# Altium footprint library 排针-排母.PcbLib: 177 footprints (part 2 of 12)
Each footprint in its own frame and in the unit in brackets; x right, y up, seen from the top. Pads: shape width x height; smd on the part's side, far side on the other; paste and mask are expansions set on the pad; w line width, h text height; cw(c..) or ccw(c..) is an arc to the next point about the centre after c.
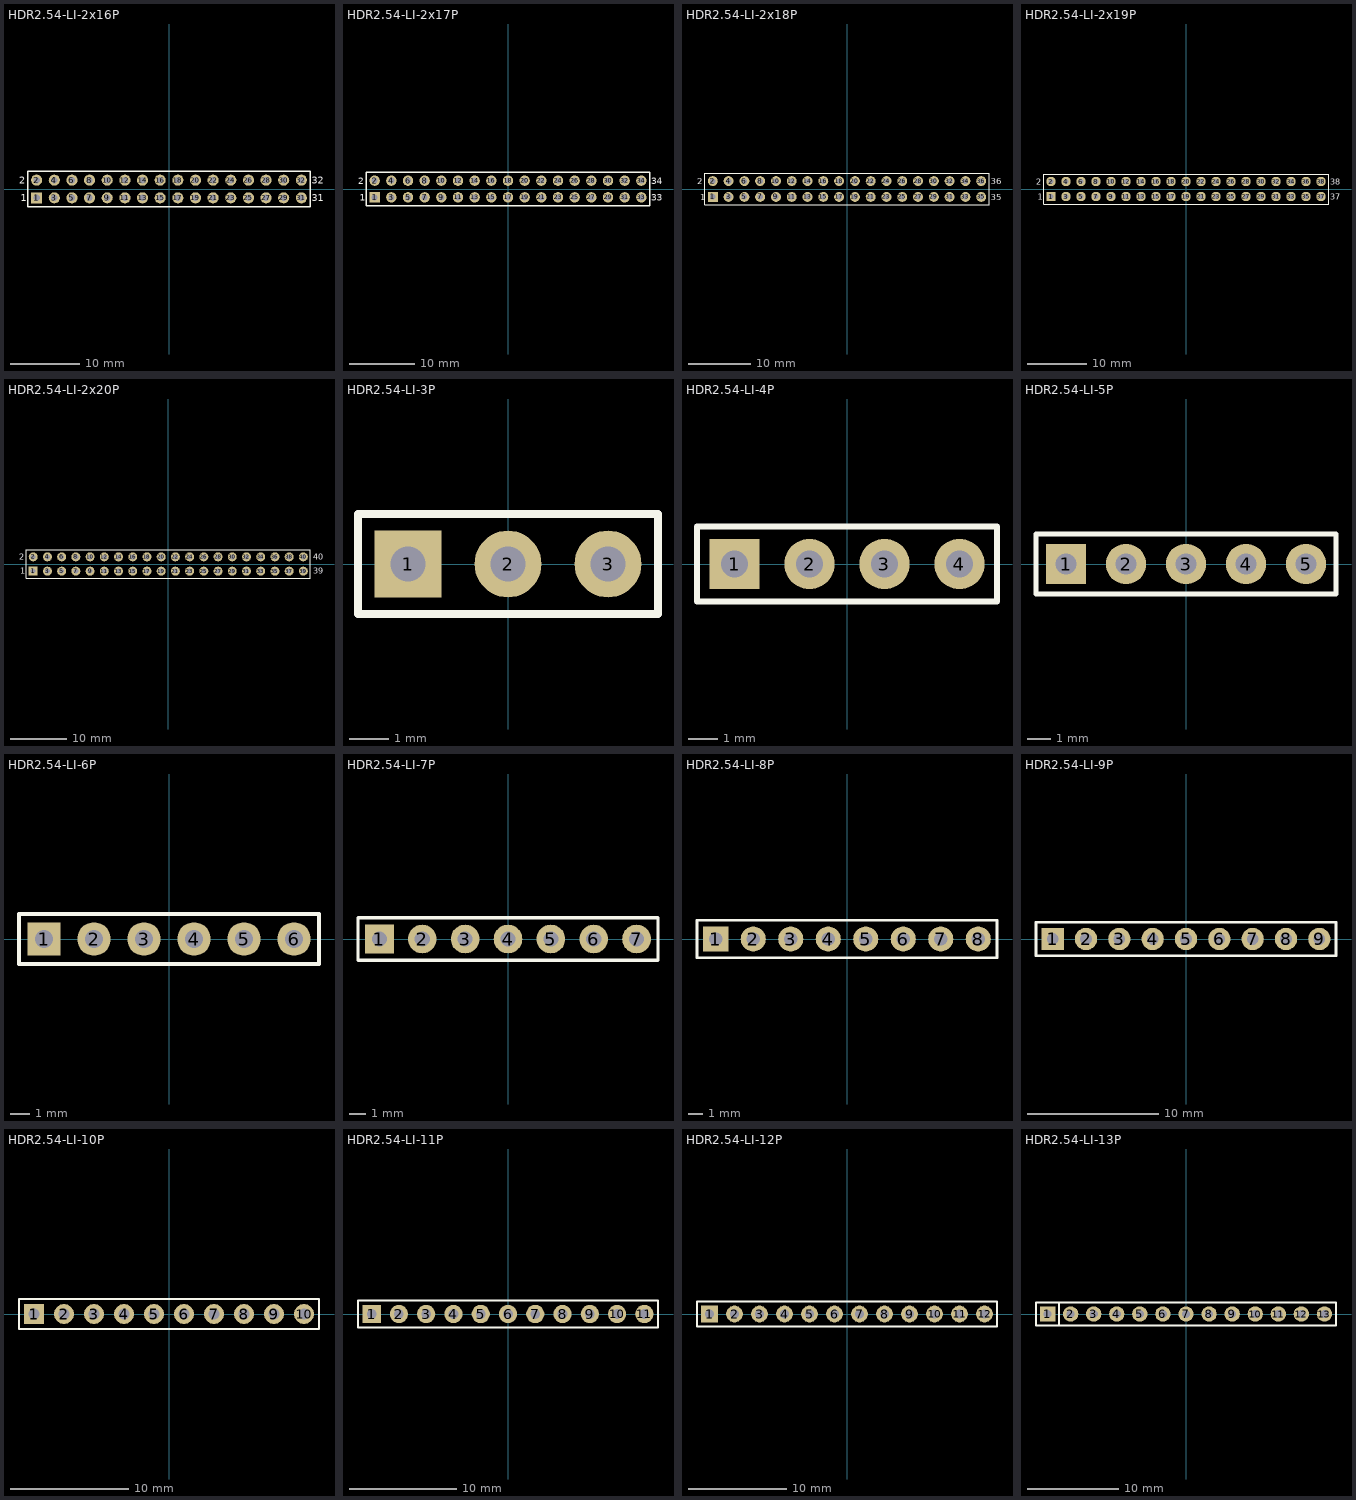
[diagram p1: the footprints below, top view; thin cyan lines are the x and y axes]

## HDR2.54-LI-2x16P [mm] "双排排针，16x2脚"
pads (32):
  rect 1.6x1.6 hole 0.9: 1(-19.05,-1.27)
  round 1.6 hole 0.9: 2(-19.05,1.27) 3(-16.51,-1.27) 4(-16.51,1.27) 5(-13.97,-1.27) 6(-13.97,1.27) 7(-11.43,-1.27) 8(-11.43,1.27) 9(-8.89,-1.27) 10(-8.89,1.27) 11(-6.35,-1.27) 12(-6.35,1.27) 13(-3.81,-1.27) 14(-3.81,1.27) 15(-1.27,-1.27) 16(-1.27,1.27) 17(1.27,-1.27) 18(1.27,1.27) 19(3.81,-1.27) 20(3.81,1.27) 21(6.35,-1.27) 22(6.35,1.27) 23(8.89,-1.27) 24(8.89,1.27) 25(11.43,-1.27) 26(11.43,1.27) 27(13.97,-1.27) 28(13.97,1.27) 29(16.51,-1.27) 30(16.51,1.27) 31(19.05,-1.27) 32(19.05,1.27)
Top Overlay:
  lines w0.2: -20.32,-2.54 -20.32,2.54 20.32,2.54 20.32,-2.54 -20.32,-2.54
  text "32" at 20.574,0.762 h1.02
  text "31" at 20.574,-1.778 h1.02
  text "1" at -21.336,-1.778 h1.02
  text "2" at -21.59,0.762 h1.02
3D body: height 8.5, standoff -3, extent 17.78,-2.54 20.32,2.54
3D body: height 8.5, standoff -3, extent 10.16,-2.54 12.7,2.54
3D body: height 8.5, standoff -3, extent 12.7,-2.54 15.24,2.54
3D body: height 8.5, standoff -3, extent 5.08,-2.54 7.62,2.54
3D body: height 8.5, standoff -3, extent 7.62,-2.54 10.16,2.54
3D body: height 8.5, standoff -3, extent 15.24,-2.54 17.78,2.54
3D body: height 8.5, standoff -3, extent -2.54,-2.54 0,2.54
3D body: height 8.5, standoff -3, extent 0,-2.54 2.54,2.54
3D body: height 8.5, standoff -3, extent -7.62,-2.54 -5.08,2.54
3D body: height 8.5, standoff -3, extent -5.08,-2.54 -2.54,2.54
3D body: height 8.5, standoff -3, extent 2.54,-2.54 5.08,2.54
3D body: height 8.5, standoff -3, extent -15.24,-2.54 -12.7,2.54
3D body: height 8.5, standoff -3, extent -12.7,-2.54 -10.16,2.54
3D body: height 8.5, standoff -3, extent -20.32,-2.54 -17.78,2.54
3D body: height 8.5, standoff -3, extent -17.78,-2.54 -15.24,2.54
3D body: height 8.5, standoff -3, extent -10.16,-2.54 -7.62,2.54

## HDR2.54-LI-2x17P [mm] "双排排针，17x2脚"
pads (34):
  rect 1.6x1.6 hole 0.9: 1(-20.32,-1.27)
  round 1.6 hole 0.9: 2(-20.32,1.27) 3(-17.78,-1.27) 4(-17.78,1.27) 5(-15.24,-1.27) 6(-15.24,1.27) 7(-12.7,-1.27) 8(-12.7,1.27) 9(-10.16,-1.27) 10(-10.16,1.27) 11(-7.62,-1.27) 12(-7.62,1.27) 13(-5.08,-1.27) 14(-5.08,1.27) 15(-2.54,-1.27) 16(-2.54,1.27) 17(0,-1.27) 18(0,1.27) 19(2.54,-1.27) 20(2.54,1.27) 21(5.08,-1.27) 22(5.08,1.27) 23(7.62,-1.27) 24(7.62,1.27) 25(10.16,-1.27) 26(10.16,1.27) 27(12.7,-1.27) 28(12.7,1.27) 29(15.24,-1.27) 30(15.24,1.27) 31(17.78,-1.27) 32(17.78,1.27) 33(20.32,-1.27) 34(20.32,1.27)
Top Overlay:
  lines w0.2: -21.59,-2.54 21.59,-2.54 21.59,2.54 -21.59,2.54 -21.59,-2.54
  text "34" at 21.844,0.762 h1.02
  text "33" at 21.844,-1.778 h1.02
  text "1" at -22.606,-1.778 h1.02
  text "2" at -22.86,0.762 h1.02
3D body: height 8.5, standoff -3, extent -11.43,-2.54 -8.89,2.54
3D body: height 8.5, standoff -3, extent -19.05,-2.54 -16.51,2.54
3D body: height 8.5, standoff -3, extent -21.59,-2.54 -19.05,2.54
3D body: height 8.5, standoff -3, extent -13.97,-2.54 -11.43,2.54
3D body: height 8.5, standoff -3, extent -16.51,-2.54 -13.97,2.54
3D body: height 8.5, standoff -3, extent 1.27,-2.54 3.81,2.54
3D body: height 8.5, standoff -3, extent -6.35,-2.54 -3.81,2.54
3D body: height 8.5, standoff -3, extent -8.89,-2.54 -6.35,2.54
3D body: height 8.5, standoff -3, extent -1.27,-2.54 1.27,2.54
3D body: height 8.5, standoff -3, extent -3.81,-2.54 -1.27,2.54
3D body: height 8.5, standoff -3, extent 13.97,-2.54 16.51,2.54
3D body: height 8.5, standoff -3, extent 6.35,-2.54 8.89,2.54
3D body: height 8.5, standoff -3, extent 3.81,-2.54 6.35,2.54
3D body: height 8.5, standoff -3, extent 11.43,-2.54 13.97,2.54
3D body: height 8.5, standoff -3, extent 8.89,-2.54 11.43,2.54
3D body: height 8.5, standoff -3, extent 19.05,-2.54 21.59,2.54
3D body: height 8.5, standoff -3, extent 16.51,-2.54 19.05,2.54

## HDR2.54-LI-2x18P [mm] "双排排针，18x2脚"
pads (36):
  rect 1.6x1.6 hole 0.9: 1(-21.59,-1.27)
  round 1.6 hole 0.9: 2(-21.59,1.27) 3(-19.05,-1.27) 4(-19.05,1.27) 5(-16.51,-1.27) 6(-16.51,1.27) 7(-13.97,-1.27) 8(-13.97,1.27) 9(-11.43,-1.27) 10(-11.43,1.27) 11(-8.89,-1.27) 12(-8.89,1.27) 13(-6.35,-1.27) 14(-6.35,1.27) 15(-3.81,-1.27) 16(-3.81,1.27) 17(-1.27,-1.27) 18(-1.27,1.27) 19(1.27,-1.27) 20(1.27,1.27) 21(3.81,-1.27) 22(3.81,1.27) 23(6.35,-1.27) 24(6.35,1.27) 25(8.89,-1.27) 26(8.89,1.27) 27(11.43,-1.27) 28(11.43,1.27) 29(13.97,-1.27) 30(13.97,1.27) 31(16.51,-1.27) 32(16.51,1.27) 33(19.05,-1.27) 34(19.05,1.27) 35(21.59,-1.27) 36(21.59,1.27)
Top Overlay:
  lines w0.2: -17.78,-2.54 -22.86,-2.54 ; -22.86,-2.54 22.86,-2.54 22.86,2.54 -22.86,2.54 -22.86,-2.54
  text "36" at 23.114,0.762 h1.02
  text "35" at 23.114,-1.778 h1.02
  text "1" at -23.622,-1.778 h1.02
  text "2" at -24.13,0.762 h1.02
3D body: height 8.5, standoff -3, extent -12.7,-2.54 -10.16,2.54
3D body: height 8.5, standoff -3, extent -20.32,-2.54 -17.78,2.54
3D body: height 8.5, standoff -3, extent -22.86,-2.54 -20.32,2.54
3D body: height 8.5, standoff -3, extent -15.24,-2.54 -12.7,2.54
3D body: height 8.5, standoff -3, extent -17.78,-2.54 -15.24,2.54
3D body: height 8.5, standoff -3, extent 0,-2.54 2.54,2.54
3D body: height 8.5, standoff -3, extent -7.62,-2.54 -5.08,2.54
3D body: height 8.5, standoff -3, extent -10.16,-2.54 -7.62,2.54
3D body: height 8.5, standoff -3, extent -2.54,-2.54 0,2.54
3D body: height 8.5, standoff -3, extent -5.08,-2.54 -2.54,2.54
3D body: height 8.5, standoff -3, extent 12.7,-2.54 15.24,2.54
3D body: height 8.5, standoff -3, extent 5.08,-2.54 7.62,2.54
3D body: height 8.5, standoff -3, extent 2.54,-2.54 5.08,2.54
3D body: height 8.5, standoff -3, extent 10.16,-2.54 12.7,2.54
3D body: height 8.5, standoff -3, extent 7.62,-2.54 10.16,2.54
3D body: height 8.5, standoff -3, extent 17.78,-2.54 20.32,2.54
3D body: height 8.5, standoff -3, extent 15.24,-2.54 17.78,2.54
3D body: height 8.5, standoff -3, extent 20.32,-2.54 22.86,2.54

## HDR2.54-LI-2x19P [mm] "双排排针，19x2脚"
pads (38):
  rect 1.6x1.6 hole 0.9: 1(-22.86,-1.27)
  round 1.6 hole 0.9: 2(-22.86,1.27) 3(-20.32,-1.27) 4(-20.32,1.27) 5(-17.78,-1.27) 6(-17.78,1.27) 7(-15.24,-1.27) 8(-15.24,1.27) 9(-12.7,-1.27) 10(-12.7,1.27) 11(-10.16,-1.27) 12(-10.16,1.27) 13(-7.62,-1.27) 14(-7.62,1.27) 15(-5.08,-1.27) 16(-5.08,1.27) 17(-2.54,-1.27) 18(-2.54,1.27) 19(0,-1.27) 20(0,1.27) 21(2.54,-1.27) 22(2.54,1.27) 23(5.08,-1.27) 24(5.08,1.27) 25(7.62,-1.27) 26(7.62,1.27) 27(10.16,-1.27) 28(10.16,1.27) 29(12.7,-1.27) 30(12.7,1.27) 31(15.24,-1.27) 32(15.24,1.27) 33(17.78,-1.27) 34(17.78,1.27) 35(20.32,-1.27) 36(20.32,1.27) 37(22.86,-1.27) 38(22.86,1.27)
Top Overlay:
  lines w0.2: -24.13,-2.54 24.13,-2.54 24.13,2.54 -24.13,2.54 -24.13,-2.54
  text "2" at -25.4,0.762 h1.02
  text "1" at -25.146,-1.778 h1.02
  text "37" at 24.384,-1.778 h1.02
  text "38" at 24.384,0.762 h1.02
3D body: height 8.5, standoff -3, extent 19.05,-2.54 21.59,2.54
3D body: height 8.5, standoff -3, extent 21.59,-2.54 24.13,2.54
3D body: height 8.5, standoff -3, extent 13.97,-2.54 16.51,2.54
3D body: height 8.5, standoff -3, extent 16.51,-2.54 19.05,2.54
3D body: height 8.5, standoff -3, extent 6.35,-2.54 8.89,2.54
3D body: height 8.5, standoff -3, extent 8.89,-2.54 11.43,2.54
3D body: height 8.5, standoff -3, extent 1.27,-2.54 3.81,2.54
3D body: height 8.5, standoff -3, extent 3.81,-2.54 6.35,2.54
3D body: height 8.5, standoff -3, extent 11.43,-2.54 13.97,2.54
3D body: height 8.5, standoff -3, extent -6.35,-2.54 -3.81,2.54
3D body: height 8.5, standoff -3, extent -3.81,-2.54 -1.27,2.54
3D body: height 8.5, standoff -3, extent -11.43,-2.54 -8.89,2.54
3D body: height 8.5, standoff -3, extent -8.89,-2.54 -6.35,2.54
3D body: height 8.5, standoff -3, extent -1.27,-2.54 1.27,2.54
3D body: height 8.5, standoff -3, extent -19.05,-2.54 -16.51,2.54
3D body: height 8.5, standoff -3, extent -16.51,-2.54 -13.97,2.54
3D body: height 8.5, standoff -3, extent -24.13,-2.54 -21.59,2.54
3D body: height 8.5, standoff -3, extent -21.59,-2.54 -19.05,2.54
3D body: height 8.5, standoff -3, extent -13.97,-2.54 -11.43,2.54

## HDR2.54-LI-2x20P [mm] "双排排针，20x2脚"
pads (40):
  rect 1.6x1.6 hole 0.9: 1(-24.13,-1.27)
  round 1.6 hole 0.9: 2(-24.13,1.27) 3(-21.59,-1.27) 4(-21.59,1.27) 5(-19.05,-1.27) 6(-19.05,1.27) 7(-16.51,-1.27) 8(-16.51,1.27) 9(-13.97,-1.27) 10(-13.97,1.27) 11(-11.43,-1.27) 12(-11.43,1.27) 13(-8.89,-1.27) 14(-8.89,1.27) 15(-6.35,-1.27) 16(-6.35,1.27) 17(-3.81,-1.27) 18(-3.81,1.27) 19(-1.27,-1.27) 20(-1.27,1.27) 21(1.27,-1.27) 22(1.27,1.27) 23(3.81,-1.27) 24(3.81,1.27) 25(6.35,-1.27) 26(6.35,1.27) 27(8.89,-1.27) 28(8.89,1.27) 29(11.43,-1.27) 30(11.43,1.27) 31(13.97,-1.27) 32(13.97,1.27) 33(16.51,-1.27) 34(16.51,1.27) 35(19.05,-1.27) 36(19.05,1.27) 37(21.59,-1.27) 38(21.59,1.27) 39(24.13,-1.27) 40(24.13,1.27)
Top Overlay:
  lines w0.2: -25.4,-2.54 25.4,-2.54 25.4,2.54 -25.4,2.54 -25.4,-2.54
  text "1" at -26.416,-1.778 h1.02
  text "2" at -26.67,0.762 h1.02
  text "40" at 25.908,0.762 h1.02
  text "39" at 25.908,-1.778 h1.02
3D body: height 8.5, standoff -3, extent 17.78,-2.54 20.32,2.54
3D body: height 8.5, standoff -3, extent 20.32,-2.54 22.86,2.54
3D body: height 8.5, standoff -3, extent 12.7,-2.54 15.24,2.54
3D body: height 8.5, standoff -3, extent 15.24,-2.54 17.78,2.54
3D body: height 8.5, standoff -3, extent 22.86,-2.54 25.4,2.54
3D body: height 8.5, standoff -3, extent 5.08,-2.54 7.62,2.54
3D body: height 8.5, standoff -3, extent 7.62,-2.54 10.16,2.54
3D body: height 8.5, standoff -3, extent 0,-2.54 2.54,2.54
3D body: height 8.5, standoff -3, extent 2.54,-2.54 5.08,2.54
3D body: height 8.5, standoff -3, extent 10.16,-2.54 12.7,2.54
3D body: height 8.5, standoff -3, extent -7.62,-2.54 -5.08,2.54
3D body: height 8.5, standoff -3, extent -5.08,-2.54 -2.54,2.54
3D body: height 8.5, standoff -3, extent -12.7,-2.54 -10.16,2.54
3D body: height 8.5, standoff -3, extent -10.16,-2.54 -7.62,2.54
3D body: height 8.5, standoff -3, extent -2.54,-2.54 0,2.54
3D body: height 8.5, standoff -3, extent -20.32,-2.54 -17.78,2.54
3D body: height 8.5, standoff -3, extent -17.78,-2.54 -15.24,2.54
3D body: height 8.5, standoff -3, extent -25.4,-2.54 -22.86,2.54
3D body: height 8.5, standoff -3, extent -22.86,-2.54 -20.32,2.54
3D body: height 8.5, standoff -3, extent -15.24,-2.54 -12.7,2.54

## HDR2.54-LI-3P [mm] "排针，3脚"
pads (3):
  rect 1.7x1.7 hole 0.9: 1(-2.54,0)
  round 1.7 hole 0.9: 2(0,0) 3(2.54,0)
Top Overlay:
  lines w0.2: -3.81,-1.27 -3.81,1.27 3.81,1.27 3.81,-1.27 -3.81,-1.27
3D body: height 8.5, standoff -3, extent 1.27,-1.27 3.81,1.27
3D body: height 8.5, standoff -3, extent -1.27,-1.27 1.27,1.27
3D body: height 8.5, standoff -3, extent -3.81,-1.27 -1.27,1.27

## HDR2.54-LI-4P [mm] "排针，4脚"
pads (4):
  rect 1.7x1.7 hole 0.9: 1(-3.81,0)
  round 1.7 hole 0.9: 2(-1.27,0) 3(1.27,0) 4(3.81,0)
Top Overlay:
  lines w0.2: -5.08,-1.27 -5.08,1.27 5.08,1.27 5.08,-1.27 -5.08,-1.27
3D body: height 8.5, standoff -3, extent -5.08,-1.27 -2.54,1.27
3D body: height 8.5, standoff -3, extent -2.54,-1.27 0,1.27
3D body: height 8.5, standoff -3, extent 0,-1.27 2.54,1.27
3D body: height 8.5, standoff -3, extent 2.54,-1.27 5.08,1.27

## HDR2.54-LI-5P [mm] "排针，5脚"
pads (5):
  rect 1.7x1.7 hole 0.9: 1(-5.08,0)
  round 1.7 hole 0.9: 2(-2.54,0) 3(0,0) 4(2.54,0) 5(5.08,0)
Top Overlay:
  lines w0.2: -6.35,-1.27 6.35,-1.27 6.35,1.27 -6.35,1.27 -6.35,-1.27
3D body: height 8.5, standoff -3, extent -3.81,-1.27 -1.27,1.27
3D body: height 8.5, standoff -3, extent -6.35,-1.27 -3.81,1.27
3D body: height 8.5, standoff -3, extent 1.27,-1.27 3.81,1.27
3D body: height 8.5, standoff -3, extent -1.27,-1.27 1.27,1.27
3D body: height 8.5, standoff -3, extent 3.81,-1.27 6.35,1.27

## HDR2.54-LI-6P [mm] "排针，6脚"
pads (6):
  rect 1.7x1.7 hole 0.9: 1(-6.35,0)
  round 1.7 hole 0.9: 2(-3.81,0) 3(-1.27,0) 4(1.27,0) 5(3.81,0) 6(6.35,0)
Top Overlay:
  lines w0.2: -7.62,-1.27 -7.62,1.27 7.62,1.27 7.62,-1.27 -7.62,-1.27
3D body: height 8.5, standoff -3, extent 5.08,-1.27 7.62,1.27
3D body: height 8.5, standoff -3, extent 2.54,-1.27 5.08,1.27
3D body: height 8.5, standoff -3, extent 0,-1.27 2.54,1.27
3D body: height 8.5, standoff -3, extent -2.54,-1.27 0,1.27
3D body: height 8.5, standoff -3, extent -5.08,-1.27 -2.54,1.27
3D body: height 8.5, standoff -3, extent -7.62,-1.27 -5.08,1.27

## HDR2.54-LI-7P [mm] "排针，8脚"
pads (7):
  rect 1.7x1.7 hole 0.9: 1(-7.62,0)
  round 1.7 hole 0.9: 2(-5.08,0) 3(-2.54,0) 4(0,0) 5(2.54,0) 6(5.08,0) 7(7.62,0)
Top Overlay:
  lines w0.2: -8.89,-1.27 -8.89,1.27 8.89,1.27 8.89,-1.27 -8.89,-1.27
3D body: height 8.5, standoff -3, extent -8.89,-1.27 -6.35,1.27
3D body: height 8.5, standoff -3, extent -6.35,-1.27 -3.81,1.27
3D body: height 8.5, standoff -3, extent -3.81,-1.27 -1.27,1.27
3D body: height 8.5, standoff -3, extent -1.27,-1.27 1.27,1.27
3D body: height 8.5, standoff -3, extent 1.27,-1.27 3.81,1.27
3D body: height 8.5, standoff -3, extent 3.81,-1.27 6.35,1.27
3D body: height 8.5, standoff -3, extent 6.35,-1.27 8.89,1.27

## HDR2.54-LI-8P [mm] "排针，8脚"
pads (8):
  rect 1.7x1.7 hole 0.9: 1(-8.89,0)
  round 1.7 hole 0.9: 2(-6.35,0) 3(-3.81,0) 4(-1.27,0) 5(1.27,0) 6(3.81,0) 7(6.35,0) 8(8.89,0)
Top Overlay:
  lines w0.2: -10.16,-1.27 -10.16,1.27 10.16,1.27 10.16,-1.27 -10.16,-1.27
3D body: height 8.5, standoff -3, extent 7.62,-1.27 10.16,1.27
3D body: height 8.5, standoff -3, extent 2.54,-1.27 5.08,1.27
3D body: height 8.5, standoff -3, extent 5.08,-1.27 7.62,1.27
3D body: height 8.5, standoff -3, extent 0,-1.27 2.54,1.27
3D body: height 8.5, standoff -3, extent -2.54,-1.27 0,1.27
3D body: height 8.5, standoff -3, extent -5.08,-1.27 -2.54,1.27
3D body: height 8.5, standoff -3, extent -7.62,-1.27 -5.08,1.27
3D body: height 8.5, standoff -3, extent -10.16,-1.27 -7.62,1.27

## HDR2.54-LI-9P [mm] "排针，9脚"
pads (9):
  rect 1.7x1.7 hole 0.9: 1(-10.16,0)
  round 1.7 hole 0.9: 2(-7.62,0) 3(-5.08,0) 4(-2.54,0) 5(0,0) 6(2.54,0) 7(5.08,0) 8(7.62,0) 9(10.16,0)
Top Overlay:
  lines w0.2: -11.43,-1.27 -11.43,1.27 11.43,1.27 11.43,-1.27 -11.43,-1.27
3D body: height 8.5, standoff -3, extent -8.89,-1.27 -6.35,1.27
3D body: height 8.5, standoff -3, extent -11.43,-1.27 -8.89,1.27
3D body: height 8.5, standoff -3, extent -3.81,-1.27 -1.27,1.27
3D body: height 8.5, standoff -3, extent -6.35,-1.27 -3.81,1.27
3D body: height 8.5, standoff -3, extent -1.27,-1.27 1.27,1.27
3D body: height 8.5, standoff -3, extent 3.81,-1.27 6.35,1.27
3D body: height 8.5, standoff -3, extent 1.27,-1.27 3.81,1.27
3D body: height 8.5, standoff -3, extent 8.89,-1.27 11.43,1.27
3D body: height 8.5, standoff -3, extent 6.35,-1.27 8.89,1.27

## HDR2.54-LI-10P [mm] "排针，10脚"
pads (10):
  rect 1.7x1.7 hole 0.9: 1(-11.43,0)
  round 1.7 hole 0.9: 2(-8.89,0) 3(-6.35,0) 4(-3.81,0) 5(-1.27,0) 6(1.27,0) 7(3.81,0) 8(6.35,0) 9(8.89,0) 10(11.43,0)
Top Overlay:
  lines w0.2: -12.7,-1.27 12.7,-1.27 12.7,1.27 -12.7,1.27 -12.7,-1.27
3D body: height 8.5, standoff -3, extent 10.16,-1.27 12.7,1.27
3D body: height 8.5, standoff -3, extent 5.08,-1.27 7.62,1.27
3D body: height 8.5, standoff -3, extent 7.62,-1.27 10.16,1.27
3D body: height 8.5, standoff -3, extent 0,-1.27 2.54,1.27
3D body: height 8.5, standoff -3, extent 2.54,-1.27 5.08,1.27
3D body: height 8.5, standoff -3, extent -2.54,-1.27 0,1.27
3D body: height 8.5, standoff -3, extent -7.62,-1.27 -5.08,1.27
3D body: height 8.5, standoff -3, extent -5.08,-1.27 -2.54,1.27
3D body: height 8.5, standoff -3, extent -12.7,-1.27 -10.16,1.27
3D body: height 8.5, standoff -3, extent -10.16,-1.27 -7.62,1.27

## HDR2.54-LI-11P [mm] "排针"
pads (11):
  rect 1.7x1.7 hole 0.9: 1(-12.7,0)
  round 1.7 hole 0.9: 2(-10.16,0) 3(-7.62,0) 4(-5.08,0) 5(-2.54,0) 6(0,0) 7(2.54,0) 8(5.08,0) 9(7.62,0) 10(10.16,0) 11(12.7,0)
Top Overlay:
  lines w0.2: -13.97,-1.27 -13.97,1.27 13.97,1.27 13.97,-1.27 -13.97,-1.27
3D body: height 8.5, standoff -3, extent 11.43,-1.27 13.97,1.27
3D body: height 8.5, standoff -3, extent 8.89,-1.27 11.43,1.27
3D body: height 8.5, standoff -3, extent 3.81,-1.27 6.35,1.27
3D body: height 8.5, standoff -3, extent 6.35,-1.27 8.89,1.27
3D body: height 8.5, standoff -3, extent -1.27,-1.27 1.27,1.27
3D body: height 8.5, standoff -3, extent 1.27,-1.27 3.81,1.27
3D body: height 8.5, standoff -3, extent -3.81,-1.27 -1.27,1.27
3D body: height 8.5, standoff -3, extent -8.89,-1.27 -6.35,1.27
3D body: height 8.5, standoff -3, extent -6.35,-1.27 -3.81,1.27
3D body: height 8.5, standoff -3, extent -13.97,-1.27 -11.43,1.27
3D body: height 8.5, standoff -3, extent -11.43,-1.27 -8.89,1.27

## HDR2.54-LI-12P [mm] "排针，13脚"
pads (12):
  rect 1.7x1.7 hole 0.9: 1(-13.97,0)
  round 1.7 hole 0.9: 2(-11.43,0) 3(-8.89,0) 4(-6.35,0) 5(-3.81,0) 6(-1.27,0) 7(1.27,0) 8(3.81,0) 9(6.35,0) 10(8.89,0) 11(11.43,0) 12(13.97,0)
Top Overlay:
  lines w0.2: -15.24,-1.27 -15.24,1.27 15.24,1.27 15.24,-1.27 -15.24,-1.27
3D body: height 8.5, standoff -3, extent 10.16,-1.27 12.7,1.27
3D body: height 8.5, standoff -3, extent 12.7,-1.27 15.24,1.27
3D body: height 8.5, standoff -3, extent 7.62,-1.27 10.16,1.27
3D body: height 8.5, standoff -3, extent 2.54,-1.27 5.08,1.27
3D body: height 8.5, standoff -3, extent 5.08,-1.27 7.62,1.27
3D body: height 8.5, standoff -3, extent -2.54,-1.27 0,1.27
3D body: height 8.5, standoff -3, extent 0,-1.27 2.54,1.27
3D body: height 8.5, standoff -3, extent -5.08,-1.27 -2.54,1.27
3D body: height 8.5, standoff -3, extent -10.16,-1.27 -7.62,1.27
3D body: height 8.5, standoff -3, extent -7.62,-1.27 -5.08,1.27
3D body: height 8.5, standoff -3, extent -15.24,-1.27 -12.7,1.27
3D body: height 8.5, standoff -3, extent -12.7,-1.27 -10.16,1.27

## HDR2.54-LI-13P [mm] "排针，13脚"
pads (13):
  rect 1.7x1.7 hole 0.9: 1(-15.24,0)
  round 1.7 hole 0.9: 2(-12.7,0) 3(-10.16,0) 4(-7.62,0) 5(-5.08,0) 6(-2.54,0) 7(0,0) 8(2.54,0) 9(5.08,0) 10(7.62,0) 11(10.16,0) 12(12.7,0) 13(15.24,0)
Top Overlay:
  lines w0.2: -13.99,-1.25 -13.99,1.25 ; -16.51,-1.27 -16.51,1.27 -14.605,1.27 16.51,1.27 16.51,-1.27 -16.51,-1.27
3D body: height 8.5, standoff -3, extent 13.97,-1.27 16.51,1.27
3D body: height 8.5, standoff -3, extent 8.89,-1.27 11.43,1.27
3D body: height 8.5, standoff -3, extent 11.43,-1.27 13.97,1.27
3D body: height 8.5, standoff -3, extent 6.35,-1.27 8.89,1.27
3D body: height 8.5, standoff -3, extent 1.27,-1.27 3.81,1.27
3D body: height 8.5, standoff -3, extent 3.81,-1.27 6.35,1.27
3D body: height 8.5, standoff -3, extent -3.81,-1.27 -1.27,1.27
3D body: height 8.5, standoff -3, extent -1.27,-1.27 1.27,1.27
3D body: height 8.5, standoff -3, extent -6.35,-1.27 -3.81,1.27
3D body: height 8.5, standoff -3, extent -11.43,-1.27 -8.89,1.27
3D body: height 8.5, standoff -3, extent -8.89,-1.27 -6.35,1.27
3D body: height 8.5, standoff -3, extent -16.51,-1.27 -13.97,1.27
3D body: height 8.5, standoff -3, extent -13.97,-1.27 -11.43,1.27